# Altium footprint library LU2EE20A.PcbLib: 20 footprints (part 2 of 2)
Each footprint in its own frame and in the unit in brackets; x right, y up, seen from the top. Pads: shape width x height; smd on the part's side, far side on the other; paste and mask are expansions set on the pad; w line width, h text height; cw(c..) or ccw(c..) is an arc to the next point about the centre after c.
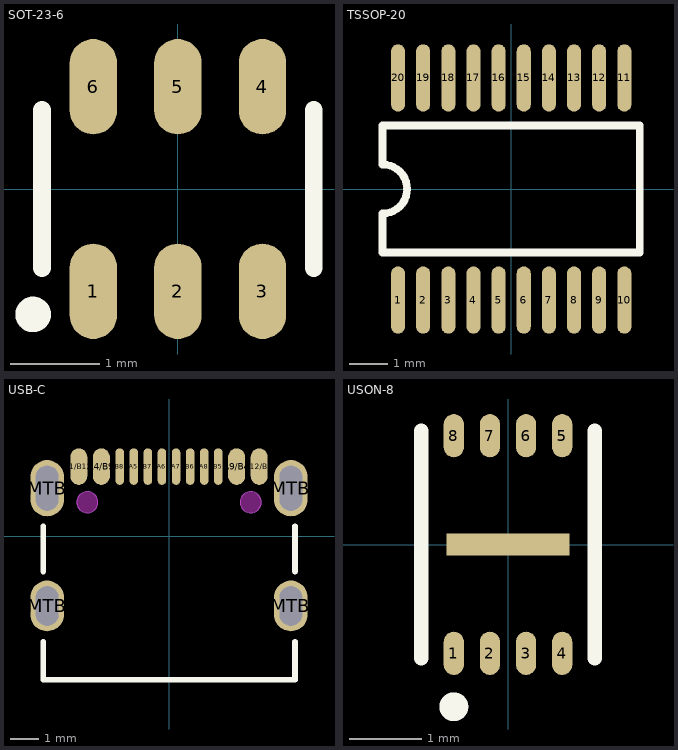
[diagram p1: the footprints below, top view; thin cyan lines are the x and y axes]

## SOT-23-6 [mm]
pads (6):
  oval 0.532x1.072 smd: 1(-0.95,-1.149) 2(0,-1.149) 3(0.95,-1.149) 4(0.95,1.149) 5(0,1.149) 6(-0.95,1.149)
Top Overlay:
  circle w0.2: c-1.626,-1.409 r0.1
  lines w0.2: -1.526,-0.889 -1.526,0.889 ; 1.526,-0.889 1.526,0.889

## TSSOP-20 [mm]
pads (20):
  oval 0.364x1.742 smd: 1(-2.925,-2.871) 2(-2.275,-2.871) 3(-1.625,-2.871) 4(-0.975,-2.871) 5(-0.325,-2.871) 6(0.325,-2.871) 7(0.975,-2.871) 8(1.625,-2.871) 9(2.275,-2.871) 10(2.925,-2.871) 11(2.925,2.871) 12(2.275,2.871) 13(1.625,2.871) 14(0.975,2.871) 15(0.325,2.871) 16(-0.325,2.871) 17(-0.975,2.871) 18(-1.625,2.871) 19(-2.275,2.871) 20(-2.925,2.871)
Top Overlay:
  lines w0.2: -3.326,-1.644 3.326,-1.644 3.326,1.644 -3.326,1.644 -3.326,0.635 cw(c-3.326,0) -2.691,0 cw(c-3.326,0) -3.326,-0.635 -3.326,-1.644

## USB-C [mm]
pads (16):
  oval 0.6x1.3 smd: A1/B12(-3.2,2.474) A4/B9(-2.4,2.474) A9/B4(2.4,2.474) A12/B1(3.2,2.474)
  oval 0.3x1.3 smd: A5(-1.25,2.474) A6(-0.25,2.474) A7(0.25,2.474) A8(1.25,2.474) B5(1.75,2.474) B6(0.75,2.474) B7(-0.75,2.474) B8(-1.75,2.474)
  oval 1.2x1.8 hole 0.8 slot 1.4 at 90 deg: MTB(-4.325,-2.474) MTB(4.325,-2.474)
  oval 1.2x2 hole 0.8 slot 1.6 at 90 deg: MTB(-4.325,1.706) MTB(4.325,1.706)
Top Overlay:
  lines w0.2: -4.469,-3.74 -4.469,-5.094 4.471,-5.094 4.471,-3.74 ; -4.469,-1.249 -4.469,0.36 ; 4.471,-1.249 4.471,0.36
Keep-Out Layer:
  board cut-out: -2.525,1.206 -2.525,1.28 -2.582,1.418 -2.688,1.523 -2.825,1.581 -2.975,1.581 -3.112,1.523 -3.218,1.418 -3.275,1.28 -3.275,1.206 -3.275,1.131 -3.218,0.993 -3.112,0.888 -2.975,0.83 -2.825,0.83 -2.688,0.888 -2.582,0.993 -2.525,1.131
  board cut-out: 3.275,1.206 3.275,1.28 3.218,1.418 3.112,1.523 2.974,1.581 2.825,1.581 2.687,1.523 2.582,1.418 2.525,1.28 2.525,1.206 2.525,1.131 2.582,0.993 2.687,0.888 2.825,0.83 2.974,0.83 3.112,0.888 3.218,0.993 3.275,1.131
Mechanical 1:
  circle w0.025: c-2.9,1.206 r0.375
  circle w0.025: c2.9,1.206 r0.375

## USON-8 [mm]
pads (9):
  oval 0.28x0.6 smd: 1(-0.75,-1.507) 2(-0.25,-1.507) 3(0.25,-1.507) 4(0.75,-1.507) 5(0.75,1.507) 6(0.25,1.507) 7(-0.25,1.507) 8(-0.75,1.507)
  rect 1.7x0.3 smd: ""(0,0)
Top Overlay:
  circle w0.2: c-0.75,-2.247 r0.1
  lines w0.2: -1.203,-1.576 -1.203,1.576 ; 1.203,-1.576 1.203,1.576